# EAGLE library part AT32UC3B0512 (library ic-ATMEL)
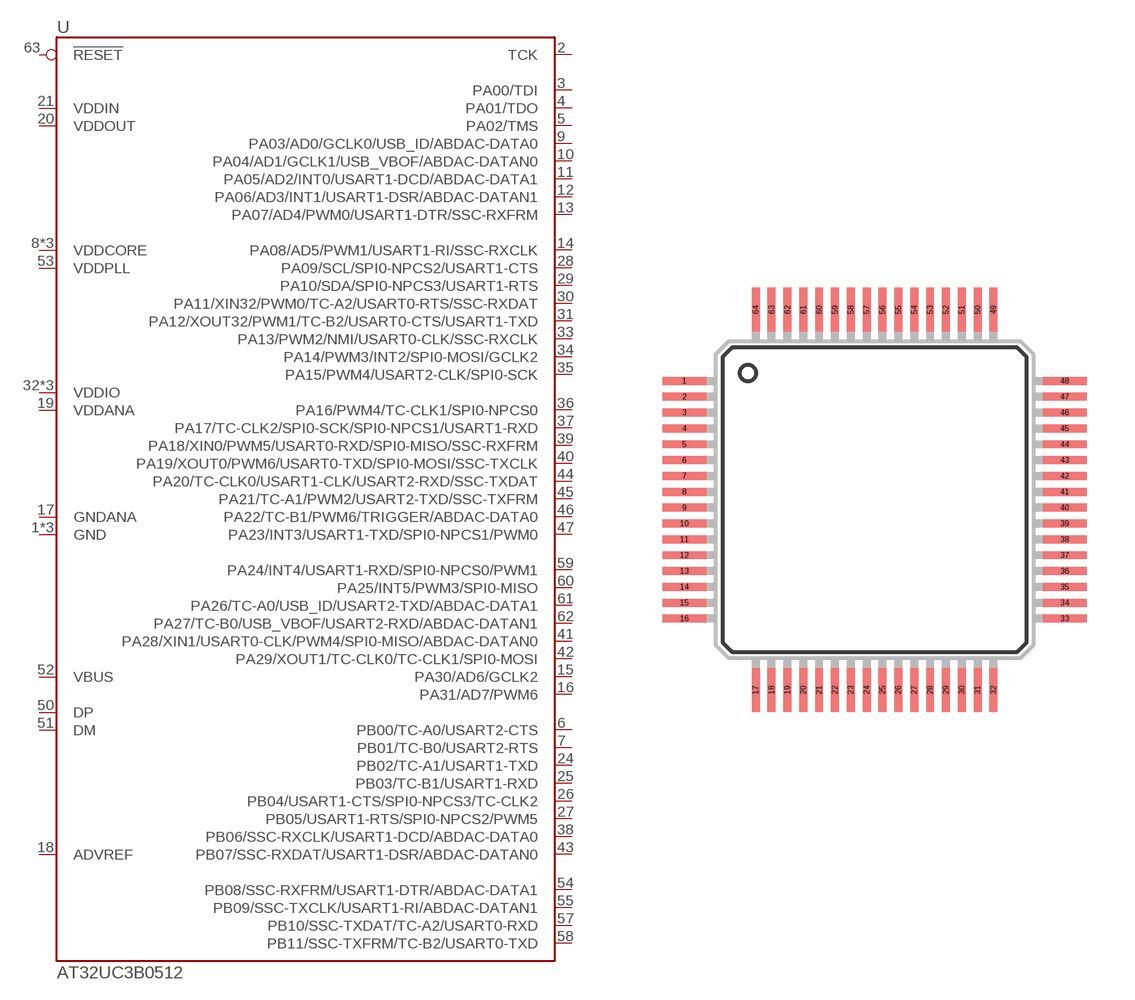
[diagram p10: symbol with the pads of QFP64-0.5; footprint QFP64-0.5]

Designator prefix U

## AT32UC3B0512-AU  [QFP64-0.5]
1  GND
2  TCK
3  PA00/TDI
4  PA01/TDO
5  PA02/TMS
6  PB00/TC-A0/USART2-CTS
7  PB01/TC-B0/USART2-RTS
8  VDDCORE
9  PA03/AD0/GCLK0/USB_ID/ABDAC-DATA0
10  PA04/AD1/GCLK1/USB_VBOF/ABDAC-DATAN0
11  PA05/AD2/INT0/USART1-DCD/ABDAC-DATA1
12  PA06/AD3/INT1/USART1-DSR/ABDAC-DATAN1
13  PA07/AD4/PWM0/USART1-DTR/SSC-RXFRM
14  PA08/AD5/PWM1/USART1-RI/SSC-RXCLK
15  PA30/AD6/GCLK2
16  PA31/AD7/PWM6
17  GNDANA
18  ADVREF
19  VDDANA
20  VDDOUT
21  VDDIN
22  VDDCORE
23  GND
24  PB02/TC-A1/USART1-TXD
25  PB03/TC-B1/USART1-RXD
26  PB04/USART1-CTS/SPI0-NPCS3/TC-CLK2
27  PB05/USART1-RTS/SPI0-NPCS2/PWM5
28  PA09/SCL/SPI0-NPCS2/USART1-CTS
29  PA10/SDA/SPI0-NPCS3/USART1-RTS
30  PA11/XIN32/PWM0/TC-A2/USART0-RTS/SSC-RXDAT
31  PA12/XOUT32/PWM1/TC-B2/USART0-CTS/USART1-TXD
32  VDDIO
33  PA13/PWM2/NMI/USART0-CLK/SSC-RXCLK
34  PA14/PWM3/INT2/SPI0-MOSI/GCLK2
35  PA15/PWM4/USART2-CLK/SPI0-SCK
36  PA16/PWM4/TC-CLK1/SPI0-NPCS0
37  PA17/TC-CLK2/SPI0-SCK/SPI0-NPCS1/USART1-RXD
38  PB06/SSC-RXCLK/USART1-DCD/ABDAC-DATA0
39  PA18/XIN0/PWM5/USART0-RXD/SPI0-MISO/SSC-RXFRM
40  PA19/XOUT0/PWM6/USART0-TXD/SPI0-MOSI/SSC-TXCLK
41  PA28/XIN1/USART0-CLK/PWM4/SPI0-MISO/ABDAC-DATAN0
42  PA29/XOUT1/TC-CLK0/TC-CLK1/SPI0-MOSI
43  PB07/SSC-RXDAT/USART1-DSR/ABDAC-DATAN0
44  PA20/TC-CLK0/USART1-CLK/USART2-RXD/SSC-TXDAT
45  PA21/TC-A1/PWM2/USART2-TXD/SSC-TXFRM
46  PA22/TC-B1/PWM6/TRIGGER/ABDAC-DATA0
47  PA23/INT3/USART1-TXD/SPI0-NPCS1/PWM0
48  VDDIO
49  GND
50  DP
51  DM
52  VBUS
53  VDDPLL
54  PB08/SSC-RXFRM/USART1-DTR/ABDAC-DATA1
55  PB09/SSC-TXCLK/USART1-RI/ABDAC-DATAN1
56  VDDCORE
57  PB10/SSC-TXDAT/TC-A2/USART0-RXD
58  PB11/SSC-TXFRM/TC-B2/USART0-TXD
59  PA24/INT4/USART1-RXD/SPI0-NPCS0/PWM1
60  PA25/INT5/PWM3/SPI0-MISO
61  PA26/TC-A0/USB_ID/USART2-TXD/ABDAC-DATA1
62  PA27/TC-B0/USB_VBOF/USART2-RXD/ABDAC-DATAN1
63  !RESET
64  VDDIO

## Footprint QFP64-0.5 (pad centres in mm)
smd 1.4 x 0.25: 1 -6,3.75; 2 -6,3.25; 3 -6,2.75; 4 -6,2.25; 5 -6,1.75; 6 -6,1.25; 7 -6,0.75; 8 -6,0.25; 9 -6,-0.25; 10 -6,-0.75; 11 -6,-1.25; 12 -6,-1.75; 13 -6,-2.25; 14 -6,-2.75; 15 -6,-3.25; 16 -6,-3.75; 33 6,-3.75; 34 6,-3.25; 35 6,-2.75; 36 6,-2.25; 37 6,-1.75; 38 6,-1.25; 39 6,-0.75; 40 6,-0.25; 41 6,0.25; 42 6,0.75; 43 6,1.25; 44 6,1.75; 45 6,2.25; 46 6,2.75; 47 6,3.25; 48 6,3.75
smd 0.25 x 1.4: 17 -3.75,-6; 18 -3.25,-6; 19 -2.75,-6; 20 -2.25,-6; 21 -1.75,-6; 22 -1.25,-6; 23 -0.75,-6; 24 -0.25,-6; 25 0.25,-6; 26 0.75,-6; 27 1.25,-6; 28 1.75,-6; 29 2.25,-6; 30 2.75,-6; 31 3.25,-6; 32 3.75,-6; 49 3.75,6; 50 3.25,6; 51 2.75,6; 52 2.25,6; 53 1.75,6; 54 1.25,6; 55 0.75,6; 56 0.25,6; 57 -0.25,6; 58 -0.75,6; 59 -1.25,6; 60 -1.75,6; 61 -2.25,6; 62 -2.75,6; 63 -3.25,6; 64 -3.75,6